# EAGLE library part RFM69H (library Cerebro-library)
Hope RF RFM69H ISM Transceiver Module The RFM69H is a transceiver module capable of operation over a wide frequency range, including the 315,433,868 and 915MHz license-free ISM (Industry Scientific and Medical) frequency bands. All major RF communication parameters are programmable and most of them can be dynamically set. The RFM69H offers the unique advantage of programmable narrow-band and wide- band communication modes. The RFM69H is optimized for low power consumption while offering high RF output power and channelized operation.Compliance ETSI and FCC regulations. Datasheet <http://www.hoperf.cn/upload/docs/RF/SX/RFM69H_DataSheet_v1.3.pdf> SparkFun Products RFM69HCW Wireless Transceiver - 915MHz <https://www.sparkfun.com/products/13909> (COM-13909) RFM69HCW Wireless Transceiver - 434MHz <https://www.sparkfun.com/products/13910> (COM-13910) SparkFun RFM69 Breakout (915MHz) <https://www.sparkfun.com/products/12775> (WRL-12775) SparkFun RFM69 Breakout (434MHz) <https://www.sparkfun.com/products/12823> (WRL-12823)
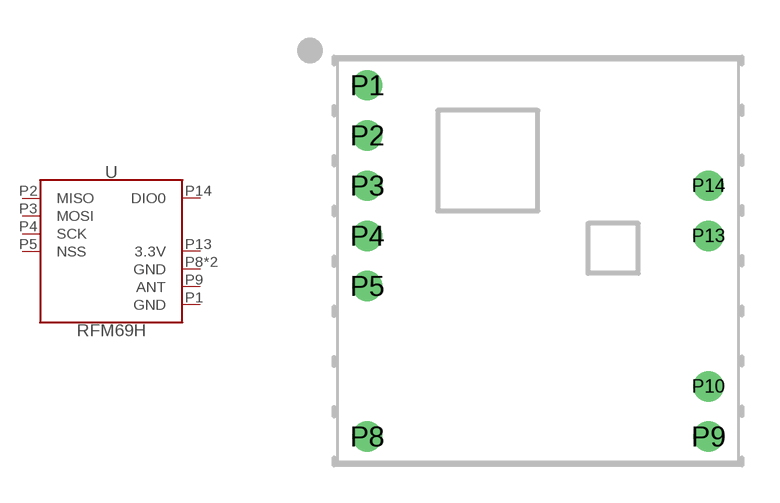
[diagram p3: symbol with the pads of RFM69HCW-XXXS2; footprint RFM69HCW-XXXS2]

Designator prefix U

## RFM69HCW-915 (PROD_ID: IC-11997; VALUE: 915MHz)  [RFM69HCW-XXXS2]
P1  GND  pwr
P2  MISO
P3  MOSI  in
P4  SCK  in
P5  NSS  in
P8  GND  pwr
P9  ANT  pas
P10  GND  pwr
P13  3.3V  pwr
P14  DIO0

## Footprint RFM69HCW-XXXS2 (pad centres in mm)
Hope RF RFM69HCW RF Transciever Datasheet <http://www.orcam.eu/res/Datablad/rfm69hcwv11.pdf>
drill 0.7: P1 -6.8,7; P2 -6.8,5; P3 -6.8,3; P4 -6.8,1; P5 -6.8,-1; P8 -6.8,-7; P9 6.8,-7; P10 6.8,-5; P13 6.8,1; P14 6.8,3